# Altium footprint library Triacs.PcbLib: 3 footprints
Each footprint in its own frame and in the unit in brackets; x right, y up, seen from the top. Pads: shape width x height; smd on the part's side, far side on the other; paste and mask are expansions set on the pad; w line width, h text height; cw(c..) or ccw(c..) is an arc to the next point about the centre after c.
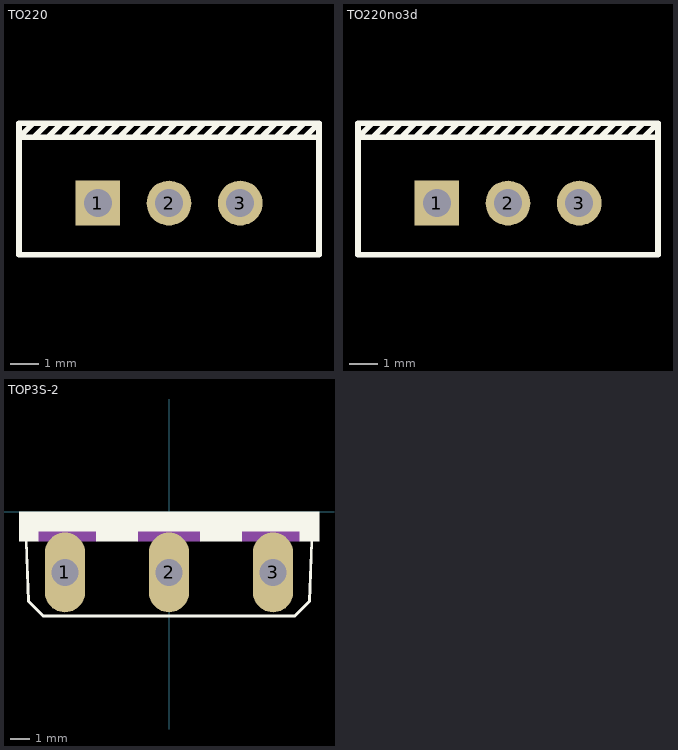
[diagram p0: the footprints below, top view; thin cyan lines are the x and y axes]

## TO220 [mm]
pads (3):
  rect 1.6x1.6 hole 1: 1(6.223,6.731)
  round 1.6 hole 1: 2(8.763,6.731) 3(11.303,6.731)
Top Overlay:
  lines w0.2: 3.413,9.081 14.113,9.081 ; 3.437,9.081 3.937,9.581 ; 3.945,9.081 4.445,9.581 ; 4.453,9.081 4.953,9.581 ; 4.961,9.081 5.461,9.581 ; 5.469,9.081 5.969,9.581 ; 5.977,9.081 6.477,9.581 ; 6.485,9.081 6.985,9.581 ; 6.993,9.081 7.493,9.581 ; 7.501,9.081 8.001,9.581 ; 8.009,9.081 8.509,9.581 ; 8.517,9.081 9.017,9.581 ; 9.025,9.081 9.525,9.581 ; 9.533,9.081 10.033,9.581 ; 10.041,9.081 10.541,9.581 ; 10.549,9.081 11.049,9.581 ; 11.057,9.081 11.557,9.581 ; 11.565,9.081 12.065,9.581 ; 12.073,9.081 12.573,9.581 ; 12.581,9.081 13.081,9.581 ; 13.089,9.081 13.589,9.581 ; 13.613,9.081 14.113,9.581 ; 14.113,9.581 14.113,4.881 3.413,4.881 3.413,9.581 14.113,9.581
Mechanical 15:
  lines w0.1: 8.263,6.731 9.263,6.731 ; 8.763,6.231 8.763,7.231
3D body "IRF640NPBF.STEP": height 21.24, standoff -10, extent 3.683,5.203 13.843,9.398

## TO220no3d [mm]
pads (3):
  rect 1.6x1.6 hole 1: 1(6.223,6.731)
  round 1.6 hole 1: 2(8.763,6.731) 3(11.303,6.731)
Top Overlay:
  lines w0.2: 3.413,9.081 14.113,9.081 ; 3.437,9.081 3.937,9.581 ; 3.945,9.081 4.445,9.581 ; 4.453,9.081 4.953,9.581 ; 4.961,9.081 5.461,9.581 ; 5.469,9.081 5.969,9.581 ; 5.977,9.081 6.477,9.581 ; 6.485,9.081 6.985,9.581 ; 6.993,9.081 7.493,9.581 ; 7.501,9.081 8.001,9.581 ; 8.009,9.081 8.509,9.581 ; 8.517,9.081 9.017,9.581 ; 9.025,9.081 9.525,9.581 ; 9.533,9.081 10.033,9.581 ; 10.041,9.081 10.541,9.581 ; 10.549,9.081 11.049,9.581 ; 11.057,9.081 11.557,9.581 ; 11.565,9.081 12.065,9.581 ; 12.073,9.081 12.573,9.581 ; 12.581,9.081 13.081,9.581 ; 13.089,9.081 13.589,9.581 ; 13.613,9.081 14.113,9.581 ; 14.113,9.581 3.413,9.581 3.413,4.881 14.113,4.881 14.113,9.581
Mechanical 15:
  lines w0.1: 8.263,6.731 9.263,6.731 ; 8.763,6.231 8.763,7.231

## TOP3S-2 [mil]
pads (3):
  oval 82.5x165 hole 55: 1(-215,-125) 2(0,-125) 3(215,-125)
Top Overlay:
  region: 150,-60 65,-60 65,-40 150,-40
  region: 310,-60 270,-60 270,-40 310,-40
  region: -65,-60 -150,-60 -150,-40 -65,-40
  region: -270,-60 -310,-60 -310,-40 -270,-40
  region: 310,-40 -310,-40 -310,0 310,0
  lines w6: -295,-60 -290,-185 -260,-215 260,-215 290,-185 295,-60
Mechanical 13:
  region: 270,-60 150,-60 150,-40 270,-40
  region: 65,-60 -65,-60 -65,-40 65,-40
  region: -150,-60 -270,-60 -270,-40 -150,-40
3D body: height 787.4, standoff 314.96, extent -180,-102.5 165,-77.5
3D body: height 865.53, standoff 630.53, extent -282.5,-153.74 292.5,-75
3D body: height 656.2, standoff 131.2, extent -282.5,-235 292.5,-77.52
3D body: height 185, standoff -185, extent 200,-125 230,-105.32
3D body: height 185, standoff -185, extent -15,-144.69 15,-125
3D body: height 185, standoff -185, extent -230,-144.69 -200,-125